# EAGLE library part 7CONN (library NES)
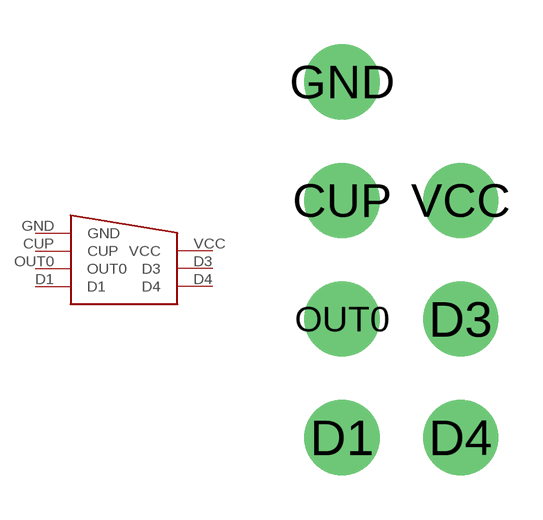
[diagram p2: symbol with the pads of 7CON; footprint 7CON]

Designator prefix -

## 7CONN  [7CON]
CUP  CUP
D1  D1
D3  D3
D4  D4
GND  GND
OUT0  OUT0
VCC  VCC

## Footprint 7CON (pad centres in mm)
drill 1.2 pad 2.54: CUP -2,4; D1 -2,-4; D3 2,0; D4 2,-4; GND -2,8; OUT0 -2,0; VCC 2,4